# EAGLE library part MCP23008 (library Dennistries-Josh)
MCP23008 i2C IO Expander
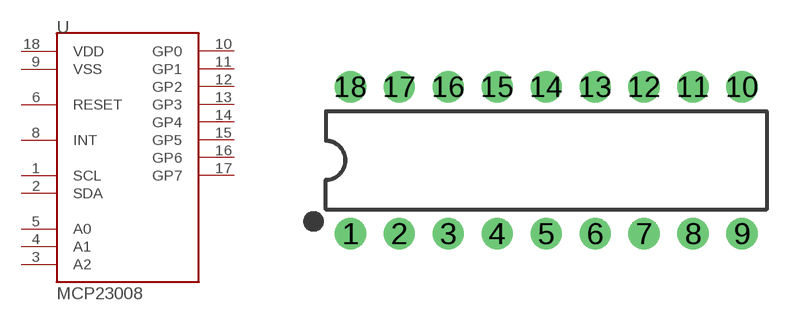
[diagram p11: symbol with the pads of DIP18; footprint DIP18]

Designator prefix -

## MCP23008  [DIP18]
1  SCL
2  SDA
3  A2
4  A1
5  A0
6  RESET
8  INT
9  VSS
10  GP0
11  GP1
12  GP2
13  GP3
14  GP4
15  GP5
16  GP6
17  GP7
18  VDD

## Footprint DIP18 (pad centres in mm)
Dual In Line Package -18 Specifications: Pin count:18 Example device(s): MCP2515(MCP2510)
drill 0.813 pad 1.626: 1 -10.16,-3.81; 2 -7.62,-3.81; 3 -5.08,-3.81; 4 -2.54,-3.81; 5 0,-3.81; 6 2.54,-3.81; 7 5.08,-3.81; 8 7.62,-3.81; 9 10.16,-3.81; 10 10.16,3.81; 11 7.62,3.81; 12 5.08,3.81; 13 2.54,3.81; 14 0,3.81; 15 -2.54,3.81; 16 -5.08,3.81; 17 -7.62,3.81; 18 -10.16,3.81